# EAGLE library part 634008137521 (library 615008185221_Eagle_WR-MJ_rev20b)
WR-MJ Modular Jack Horizontal Shielded SMT w. LED and EMI Panel Finger 8P8C Tab Up KIND PROPERTIES Quality Class:500 Mating cycles LED green-yellow General Information Operating Temperature:-40 up to +85 °C Compliance:RoHS Electrical Properties IR1:1.5A Working Voltage:120V (AC) Withstanding Voltage:1000V (AC) Contact Resistance:20mΩ RISO:500 MΩ Material Properties Insulator MateriaL:PA9T Insulator Flammability Rating:UL94 V-0 Color:Black Cover Material Bronze Cover Plating Nickel Contact Material Copper Alloy Contact Plating:Selective Gold Contact Type:Stamped Shielding Material:Bronze Shielding Plating:Nickel Packaging Properties Packaging:Tape and Reel <https://www.we-online.com/catalog/media/o60691v209%20Family_WR-MJ_634008137521.jpg> Details see: https://www.we-online.com/catalog/en/MJ_SMT_HORIZONTAL_SHIELDED_W_LED_AND_EMI_PANEL_FINGER_8P8C_TAB_UP/ Updated by Yingchun,Shan 2019-11-26 2019 (C) Würth Elektronik
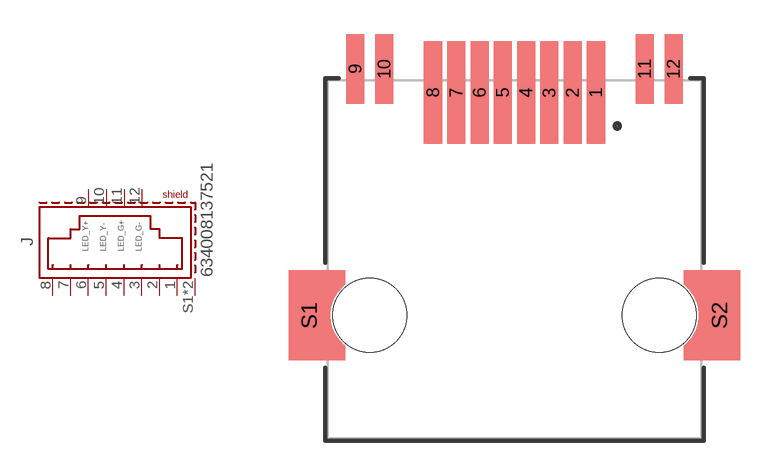
[diagram p72: symbol with the pads of 634008137521; footprint 634008137521]

Designator prefix J

## 634008137521 (DATASHEET-URL: https://www.we-online.com/catalog/datasheet/634008137521.pdf; LED: yellow-green; MOUNT: SMT; PART-NUMBER: 634008137521; TYPE: Horizontal; VALUE: 634008137521; XPXC: 8P8C)  [634008137521]
1  1  pas
2  2  pas
3  3  pas
4  4  pas
5  5  pas
6  6  pas
7  7  pas
8  8  pas
9  Y+  pas
10  Y-  pas
11  G+  pas
12  G-  pas
S1  SHIELD  pas
S2  SHIELD  pas

## Footprint 634008137521 (pad centres in mm)
WR-MJ Modular Jack Horizontal Shielded SMT w. LED and EMI Panel Finger 8P8C Tab Up
smd 0.8 x 4.5: 1 3.57,7.31; 2 2.55,7.31; 3 1.53,7.31; 4 0.51,7.31; 5 -0.51,7.31; 6 -1.53,7.31; 7 -2.55,7.31; 8 -3.57,7.31
smd 0.8 x 3.05: 9 -6.98,8.35; 10 -5.71,8.35; 11 5.71,8.35; 12 6.98,8.35
smd 1 x 3.89: S1 -9,-2.45; S2 9,-2.45
hole 3.25 at -6.35,-2.45
hole 3.25 at 6.35,-2.45